# EAGLE library part SN74AHCT573PWR (library 07-Retrocomputing)
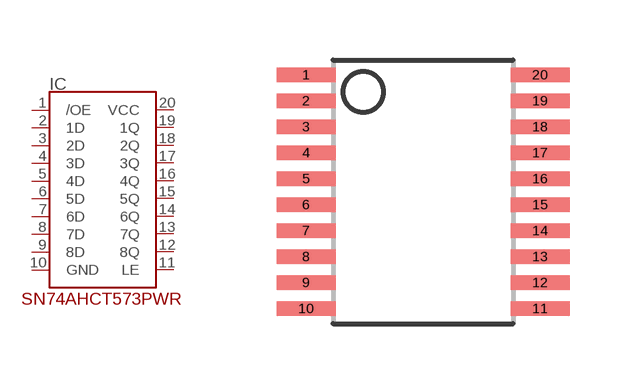
[diagram p25: symbol with the pads of TSSOP20; footprint TSSOP20]

Designator prefix IC

## SN74AHCT573PWR  [TSSOP20]
1  /OE
2  1D
3  2D
4  3D
5  4D
6  5D
7  6D
8  7D
9  8D
10  GND
11  LE
12  8Q
13  7Q
14  6Q
15  5Q
16  4Q
17  3Q
18  2Q
19  1Q
20  VCC

## Footprint TSSOP20 (pad centres in mm)
smd 1.5 x 0.35: 1 -2.925,2.925; 2 -2.925,2.275; 3 -2.925,1.625; 4 -2.925,0.975; 5 -2.925,0.325; 6 -2.925,-0.325; 7 -2.925,-0.975; 8 -2.925,-1.625; 9 -2.925,-2.275; 10 -2.925,-2.925; 11 2.925,-2.925; 12 2.925,-2.275; 13 2.925,-1.625; 14 2.925,-0.975; 15 2.925,-0.325; 16 2.925,0.325; 17 2.925,0.975; 18 2.925,1.625; 19 2.925,2.275; 20 2.925,2.925